# EAGLE library part 74HC4050 (library misc)
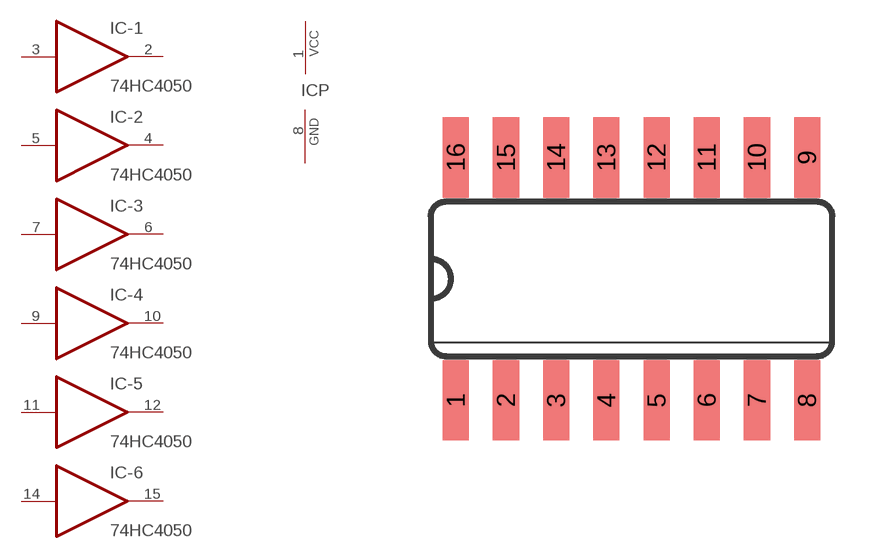
[diagram p8: symbol with the pads of SO16; footprint SO16]

Designator prefix IC; gates -1=7407 -2=7407 -3=7407 -4=7407 -5=7407 -6=7407 P=PWRN

## 74HC4050  [SO16]
1  P:VCC  pwr
2  -1:O  oc
3  -1:I  in
4  -2:O  oc
5  -2:I  in
6  -3:O  oc
7  -3:I  in
8  P:GND  pwr
9  -4:I  in
10  -4:O  oc
11  -5:I  in
12  -5:O  oc
14  -6:I  in
15  -6:O  oc

## Footprint SO16 (pad centres in mm)
Small Outline package 150 mil
smd 0.66 x 2.032: 1 -4.445,-3.073; 2 -3.175,-3.073; 3 -1.905,-3.073; 4 -0.635,-3.073; 5 0.635,-3.073; 6 1.905,-3.073; 7 3.175,-3.073; 8 4.445,-3.073; 9 4.445,3.073; 10 3.175,3.073; 11 1.905,3.073; 12 0.635,3.073; 13 -0.635,3.073; 14 -1.905,3.073; 15 -3.175,3.073; 16 -4.445,3.073